# EAGLE library part VI-201 (library varitronix-vi-201-1)
1x2 Digits LCD display
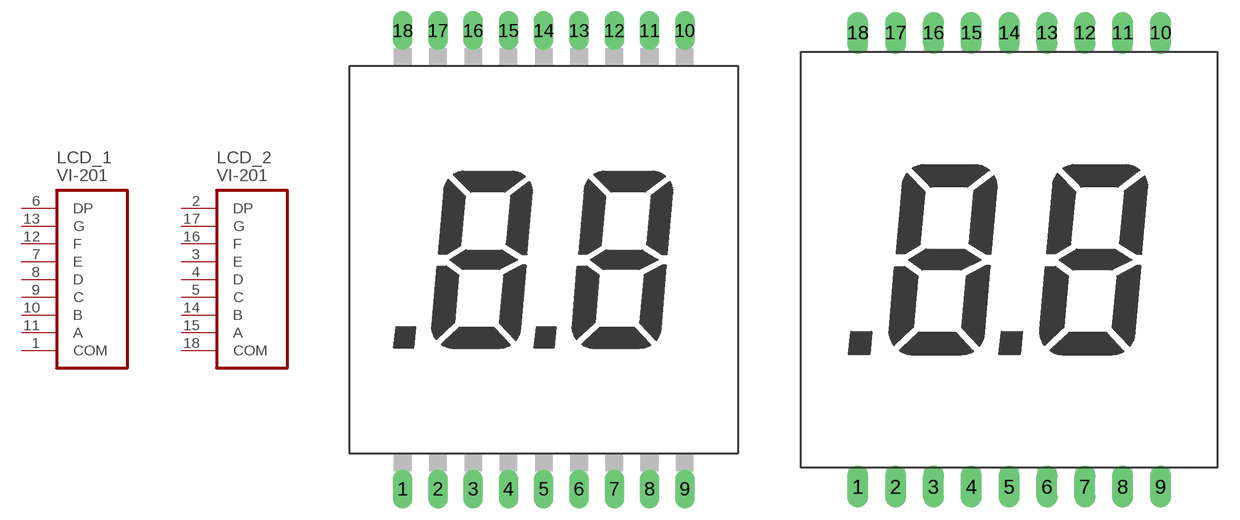
[diagram p0: symbol with the pads of VI-201_SHORT_PINS; footprints VI-201_SHORT_PINS, VI-201_LONG_PINS]

Designator prefix LCD; gates _1=VI-201 _2=VI-201

## VI-201  [VI-201_SHORT_PINS]
1  _1:COM  pas
2  _2:DP  pas
3  _2:E  pas
4  _2:D  pas
5  _2:C  pas
6  _1:DP  pas
7  _1:E  pas
8  _1:D  pas
9  _1:C  pas
10  _1:B  pas
11  _1:A  pas
12  _1:F  pas
13  _1:G  pas
14  _2:B  pas
15  _2:A  pas
16  _2:F  pas
17  _2:G  pas
18  _2:COM  pas

## VI-201LONG_PINS  [VI-201_LONG_PINS]
Pads as for VI-201_SHORT_PINS

## Footprint VI-201_SHORT_PINS (pad centres in mm)
1x2 Digits LCD with pins shorter than 10mm
drill 0.9 long: 1 0,0; 2 2.54,0; 3 5.08,0; 4 7.62,0; 5 10.16,0; 6 12.7,0; 7 15.24,0; 8 17.78,0; 9 20.32,0; 10 20.32,33.02; 11 17.78,33.02; 12 15.24,33.02; 13 12.7,33.02; 14 10.16,33.02; 15 7.62,33.02; 16 5.08,33.02; 17 2.54,33.02; 18 0,33.02

## Footprint VI-201_LONG_PINS (pad centres in mm)
1x2 Digits LCD with pins longer than 10mm
drill 0.9 long: 1 0,0; 2 2.54,0; 3 5.08,0; 4 7.62,0; 5 10.16,0; 6 12.7,0; 7 15.24,0; 8 17.78,0; 9 20.32,0; 10 20.32,30.48; 11 17.78,30.48; 12 15.24,30.48; 13 12.7,30.48; 14 10.16,30.48; 15 7.62,30.48; 16 5.08,30.48; 17 2.54,30.48; 18 0,30.48